# EAGLE library part STECKER_BOSCH_55-PIN_1.3 (library k-data Mechanik)
Bosch Stecker 55 pol. für Motronik (1.3)
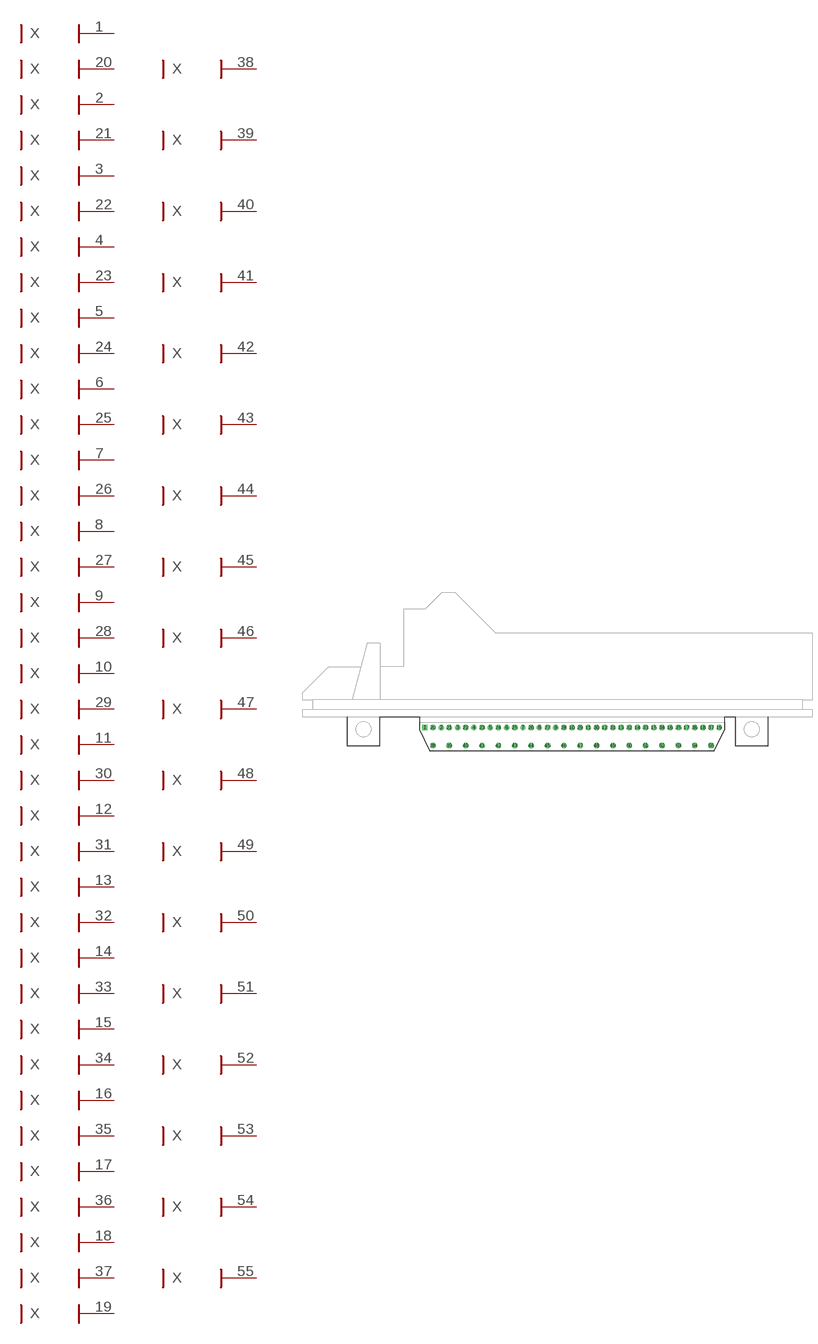
[diagram p7: symbol with the pads of STECKER_BOSCH_55-PIN_1.3; footprint STECKER_BOSCH_55-PIN_1.3]

Designator prefix X; gates 1=CONNECTOR 2=CONNECTOR 3=CONNECTOR 4=CONNECTOR 5=CONNECTOR 6=CONNECTOR 7=CONNECTOR 8=CONNECTOR 9=CONNECTOR 10=CONNECTOR 11=CONNECTOR 12=CONNECTOR 13=CONNECTOR 14=CONNECTOR 15=CONNECTOR 16=CONNECTOR 17=CONNECTOR 18=CONNECTOR 19=CONNECTOR 20=CONNECTOR 21=CONNECTOR 22=CONNECTOR 23=CONNECTOR 24=CONNECTOR 25=CONNECTOR 26=CONNECTOR 27=CONNECTOR 28=CONNECTOR 29=CONNECTOR 30=CONNECTOR 31=CONNECTOR 32=CONNECTOR 33=CONNECTOR 34=CONNECTOR 35=CONNECTOR 36=CONNECTOR 37=CONNECTOR 38=CONNECTOR 39=CONNECTOR 40=CONNECTOR 41=CONNECTOR 42=CONNECTOR 43=CONNECTOR 44=CONNECTOR 45=CONNECTOR 46=CONNECTOR 47=CONNECTOR 48=CONNECTOR 49=CONNECTOR 50=CONNECTOR 51=CONNECTOR 52=CONNECTOR 53=CONNECTOR 54=CONNECTOR 55=CONNECTOR

## STECKER_BOSCH_55-PIN_1.3  [STECKER_BOSCH_55-PIN_1.3]
1  1:1
2  2:1
3  3:1
4  4:1
5  5:1
6  6:1
7  7:1
8  8:1
9  9:1
10  10:1
11  11:1
12  12:1
13  13:1
14  14:1
15  15:1
16  16:1
17  17:1
18  18:1
19  19:1
20  20:1
21  21:1
22  22:1
23  23:1
24  24:1
25  25:1
26  26:1
27  27:1
28  28:1
29  29:1
30  30:1
31  31:1
32  32:1
33  33:1
34  34:1
35  35:1
36  36:1
37  37:1
38  38:1
39  39:1
40  40:1
41  41:1
42  42:1
43  43:1
44  44:1
45  45:1
46  46:1
47  47:1
48  48:1
49  49:1
50  50:1
51  51:1
52  52:1
53  53:1
54  54:1
55  55:1

## Footprint STECKER_BOSCH_55-PIN_1.3 (pad centres in mm)
Bosch Stecker 55 pol. (1.3)
drill 1.1 pad 1.6 square: 1 -40.6,-8
drill 1.1 pad 1.6 octagon: 2 -35.6,-8; 3 -30.6,-8; 4 -25.6,-8; 5 -20.6,-8; 6 -15.6,-8; 7 -10.6,-8; 8 -5.6,-8; 9 -0.6,-8; 10 4.4,-8; 11 9.4,-8; 12 14.4,-8; 13 19.4,-8; 14 24.4,-8; 15 29.4,-8; 16 34.4,-8; 17 39.4,-8; 18 44.4,-8; 19 49.4,-8; 20 -38.1,-8; 21 -33.1,-8; 22 -28.1,-8; 23 -23.1,-8; 24 -18.1,-8; 25 -13.1,-8; 26 -8.1,-8; 27 -3.1,-8; 28 1.9,-8; 29 6.9,-8; 30 11.9,-8; 31 16.9,-8; 32 21.9,-8; 33 26.9,-8; 34 31.9,-8; 35 36.9,-8; 36 41.9,-8; 37 46.9,-8; 38 -38.1,-13.5; 39 -33.1,-13.5; 40 -28.1,-13.5; 41 -23.1,-13.5; 42 -18.1,-13.5; 43 -13.1,-13.5; 44 -8.1,-13.5; 45 -3.1,-13.5; 46 1.9,-13.5; 47 6.9,-13.5; 48 11.9,-13.5; 49 16.9,-13.5; 50 21.9,-13.5; 51 26.9,-13.5; 52 31.9,-13.5; 53 36.9,-13.5; 54 41.9,-13.5; 55 46.9,-13.5